# Altium footprint library BAV99LT1G.PcbLib: 3 footprints
Each footprint in its own frame and in the unit in brackets; x right, y up, seen from the top. Pads: shape width x height; smd on the part's side, far side on the other; paste and mask are expansions set on the pad; w line width, h text height; cw(c..) or ccw(c..) is an arc to the next point about the centre after c.
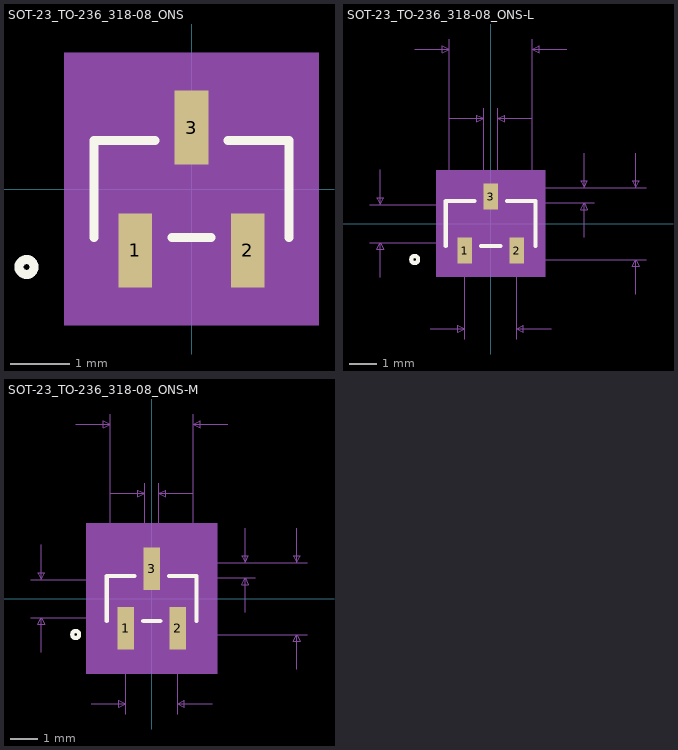
[diagram p0: the footprints below, top view; thin cyan lines are the x and y axes]

## SOT-23_TO-236_318-08_ONS [mil]
pads (3):
  rect 22.36x49.56 smd paste+0 mask+0: 1(-37.4,-41) 2(37.4,-41) 3(0,41)
Top Overlay:
  circle w6: c-110,-52 r5
  lines w6: -65,-32.5 -65,32.5 -24.28,32.5 ; -13.12,-32.5 13.12,-32.5 ; 24.28,32.5 65,32.5 65,-32.5
Mechanical 5:
  region: -85,90.78 85,90.78 85,-90.78 -85,-90.78
Mechanical 13:
  circle w0: c-50,-17.5 r5
  lines w1: -60,-27.5 60,-27.5 60,27.5 -60,27.5 -60,-27.5 ; -47.4,-52 -47.4,-27.5 -27.4,-27.5 -27.4,-52 -47.4,-52 ; -10,27.5 10,27.5 10,52 -10,52 -10,27.5 ; 27.4,-52 27.4,-27.5 47.4,-27.5 47.4,-52 27.4,-52
Mechanical 15:
  region: -70,-37.5 -70,37.5 -21.18,37.5 -21.18,75.78 21.18,75.78 21.18,37.5 70,37.5 70,-37.5 58.58,-37.5 58.58,-75.78 -58.58,-75.78 -58.58,-37.5
  region: 60,-27.5 -60,-27.5 -60,27.5 60,27.5
  lines w6: -70,-37.5 -70,37.5 -21.18,37.5 -21.18,75.78 21.18,75.78 21.18,37.5 70,37.5 70,-37.5 58.58,-37.5 58.58,-75.78 -58.58,-75.78 -58.58,-37.5 -70,-37.5
3D body "SOT-23_TO-236_318-08_ONS.step": height 44.09, standoff 0, extent -60,-52 60,52.01
3D body: height 10, standoff 0, extent 0,0 10,10

## SOT-23_TO-236_318-08_ONS-L [mm]
pads (3):
  rect 0.528x0.959 smd paste+0 mask+0: 1(-0.95,-0.991) 2(0.95,-0.991) 3(0,0.991)
Top Overlay:
  circle w0.152: c-2.794,-1.321 r0.127
  lines w0.152: -1.651,-0.826 -1.651,0.826 -0.597,0.826 ; -0.353,-0.826 0.353,-0.826 ; 0.597,0.826 1.651,0.826 1.651,-0.826
Mechanical 5:
  region: -2.007,1.953 2.007,1.953 2.007,-1.953 -2.007,-1.953
Mechanical 7:
  lines w0.025: -4.445,-0.699 0,-0.699 ; -4.445,0.699 0,0.699 ; -4.064,-1.968 -4.064,-0.699 ; -4.064,1.968 -4.064,0.699 ; -2.794,6.401 -1.524,6.401 ; -2.22,-3.861 -0.95,-3.861 ; -1.524,0.699 -1.524,6.782 ; -1.524,3.861 -0.254,3.861 ; -0.95,-4.242 -0.95,-1.321 ; -0.254,1.321 -0.254,4.242 ; 0,-1.321 5.715,-1.321 ; 0,0.762 3.81,0.762 ; 0.254,1.321 0.254,4.242 ; 0.95,-4.242 0.95,-1.321 ; 1.524,0.699 1.524,6.782 ; 1.524,3.861 0.254,3.861 ; 2.22,-3.861 0.95,-3.861 ; 2.794,6.401 1.524,6.401 ; 3.429,-0.508 3.429,0.762 ; 3.429,2.591 3.429,1.321 ; 3.81,1.321 0,1.321 5.715,1.321 ; 5.334,-2.591 5.334,-1.321 ; 5.334,2.591 5.334,1.321 ; -4.064,-0.699 -3.937,-0.953 -4.191,-0.953 -4.064,-0.699 ; -4.064,0.699 -3.937,0.953 -4.191,0.953 -4.064,0.699 ; -1.524,6.401 -1.778,6.274 -1.778,6.528 -1.524,6.401 ; -0.95,-3.861 -1.204,-3.988 -1.204,-3.734 -0.95,-3.861 ; -0.254,3.861 -0.508,3.734 -0.508,3.988 -0.254,3.861 ; 0.254,3.861 0.508,3.734 0.508,3.988 0.254,3.861 ; 0.95,-3.861 1.204,-3.988 1.204,-3.734 0.95,-3.861 ; 1.524,6.401 1.778,6.274 1.778,6.528 1.524,6.401 ; 3.429,0.762 3.556,0.508 3.302,0.508 3.429,0.762 ; 3.429,1.321 3.556,1.575 3.302,1.575 3.429,1.321 ; 5.334,-1.321 5.461,-1.575 5.207,-1.575 5.334,-1.321 ; 5.334,1.321 5.461,1.575 5.207,1.575 5.334,1.321
  text "0.055in/1.397mm" at -9.335,-0.318 h0.64
  text "0.12in/3.048mm" at -2.222,6.909 h0.64
  text "0.02in/0.508mm" at -2.222,4.369 h0.64
  text "0.075in/1.9mm" at -2.064,-5.004 h0.64
  text "0.022in/0.559mm" at 3.937,0.724 h0.64
  text "0.104in/2.642mm" at 5.842,-0.318 h0.64
  text "Alt 2 Padstyle: b229_152h76" at -8.572,-13.536 h1.27
  text "Alt 1 Padstyle: b152_229h76" at -8.572,-11.631 h1.27
  text "Bottom Padstyle: r53_96" at -7.302,-9.726 h1.27
  text "Top Padstyle: r53_96" at -6.35,-7.821 h1.27
Mechanical 13:
  circle w0: c-1.27,-0.445 r0.127
  lines w0.025: -1.524,-0.699 -1.524,0.699 1.524,0.699 1.524,-0.699 -1.524,-0.699 ; -1.204,-1.321 -0.696,-1.321 -0.696,-0.699 -1.204,-0.699 -1.204,-1.321 ; -0.254,0.699 -0.254,1.321 0.254,1.321 0.254,0.699 -0.254,0.699 ; 0.696,-1.321 1.204,-1.321 1.204,-0.699 0.696,-0.699 0.696,-1.321
Mechanical 15:
  region: 1.524,-0.699 -1.524,-0.699 -1.524,0.699 1.524,0.699
  region: -1.626,-0.8 -1.626,0.8 -0.366,0.8 -0.366,1.572 0.366,1.572 0.366,0.8 1.626,0.8 1.626,-0.8 1.316,-0.8 1.316,-1.572 -1.316,-1.572 -1.316,-0.8
  lines w0.152: -1.626,-0.8 -1.316,-0.8 -1.316,-1.572 1.316,-1.572 1.316,-0.8 1.626,-0.8 1.626,0.8 0.366,0.8 0.366,1.572 -0.366,1.572 -0.366,0.8 -1.626,0.8 -1.626,-0.8
3D body: height 0.25, standoff 0, extent 0,0 0.254,0.254
3D body "SOT-23_TO-236_318-08_ONS-L.step": height 1.12, standoff 0, extent -1.524,-1.321 1.524,1.321

## SOT-23_TO-236_318-08_ONS-M [mm]
pads (3):
  rect 0.608x1.559 smd paste+0 mask+0: 1(-0.95,-1.091) 2(0.95,-1.091) 3(0,1.091)
Top Overlay:
  circle w0.152: c-2.794,-1.321 r0.127
  lines w0.152: -1.651,-0.826 -1.651,0.826 -0.637,0.826 ; -0.313,-0.826 0.313,-0.826 ; 0.637,0.826 1.651,0.826 1.651,-0.826
Mechanical 5:
  region: -2.413,2.76 2.413,2.76 2.413,-2.76 -2.413,-2.76
Mechanical 7:
  lines w0.025: -4.445,-0.699 0,-0.699 ; -4.445,0.699 0,0.699 ; -4.064,-1.968 -4.064,-0.699 ; -4.064,1.968 -4.064,0.699 ; -2.794,6.401 -1.524,6.401 ; -2.22,-3.861 -0.95,-3.861 ; -1.524,0.699 -1.524,6.782 ; -1.524,3.861 -0.254,3.861 ; -0.95,-4.242 -0.95,-1.321 ; -0.254,1.321 -0.254,4.242 ; 0,-1.321 5.715,-1.321 ; 0,0.762 3.81,0.762 ; 0.254,1.321 0.254,4.242 ; 0.95,-4.242 0.95,-1.321 ; 1.524,0.699 1.524,6.782 ; 1.524,3.861 0.254,3.861 ; 2.22,-3.861 0.95,-3.861 ; 2.794,6.401 1.524,6.401 ; 3.429,-0.508 3.429,0.762 ; 3.429,2.591 3.429,1.321 ; 3.81,1.321 0,1.321 5.715,1.321 ; 5.334,-2.591 5.334,-1.321 ; 5.334,2.591 5.334,1.321 ; -4.064,-0.699 -4.191,-0.953 -3.937,-0.953 -4.064,-0.699 ; -4.064,0.699 -4.191,0.953 -3.937,0.953 -4.064,0.699 ; -1.524,6.401 -1.778,6.528 -1.778,6.274 -1.524,6.401 ; -0.95,-3.861 -1.204,-3.734 -1.204,-3.988 -0.95,-3.861 ; -0.254,3.861 -0.508,3.988 -0.508,3.734 -0.254,3.861 ; 0.254,3.861 0.508,3.988 0.508,3.734 0.254,3.861 ; 0.95,-3.861 1.204,-3.734 1.204,-3.988 0.95,-3.861 ; 1.524,6.401 1.778,6.528 1.778,6.274 1.524,6.401 ; 3.429,0.762 3.302,0.508 3.556,0.508 3.429,0.762 ; 3.429,1.321 3.302,1.575 3.556,1.575 3.429,1.321 ; 5.334,-1.321 5.207,-1.575 5.461,-1.575 5.334,-1.321 ; 5.334,1.321 5.207,1.575 5.461,1.575 5.334,1.321
  text "Top Padstyle: r61_156" at -6.667,-8.221 h1.27
  text "Bottom Padstyle: r61_156" at -7.62,-10.126 h1.27
  text "Alt 1 Padstyle: b152_229h76" at -8.572,-12.031 h1.27
  text "Alt 2 Padstyle: b229_152h76" at -8.572,-13.936 h1.27
  text "0.104in/2.642mm" at 5.842,-0.318 h0.64
  text "0.022in/0.559mm" at 3.937,0.724 h0.64
  text "0.075in/1.9mm" at -2.064,-5.004 h0.64
  text "0.02in/0.508mm" at -2.222,4.369 h0.64
  text "0.12in/3.048mm" at -2.222,6.909 h0.64
  text "0.055in/1.397mm" at -9.335,-0.318 h0.64
Mechanical 13:
  circle w0: c-1.27,-0.445 r0.127
  lines w0.025: -1.524,-0.699 1.524,-0.699 1.524,0.699 -1.524,0.699 -1.524,-0.699 ; -1.204,-1.321 -1.204,-0.699 -0.696,-0.699 -0.696,-1.321 -1.204,-1.321 ; -0.254,0.699 0.254,0.699 0.254,1.321 -0.254,1.321 -0.254,0.699 ; 0.696,-1.321 0.696,-0.699 1.204,-0.699 1.204,-1.321 0.696,-1.321
Mechanical 15:
  region: -2.032,-1.206 -2.032,1.206 -0.812,1.206 -0.812,2.379 0.812,2.379 0.812,1.206 2.032,1.206 2.032,-1.206 1.762,-1.206 1.762,-2.379 -1.762,-2.379 -1.762,-1.206
  region: 1.524,-0.699 -1.524,-0.699 -1.524,0.699 1.524,0.699
  lines w0.152: -2.032,-1.206 -2.032,1.206 -0.812,1.206 -0.812,2.379 0.812,2.379 0.812,1.206 2.032,1.206 2.032,-1.206 1.762,-1.206 1.762,-2.379 -1.762,-2.379 -1.762,-1.206 -2.032,-1.206
3D body: height 0.25, standoff 0, extent 0,0 0.254,0.254
3D body "SOT-23_TO-236_318-08_ONS-M.step": height 1.12, standoff 0, extent -1.524,-1.321 1.524,1.321